# EAGLE library part TI_MULTIPAD (library PP_DigitalIC)
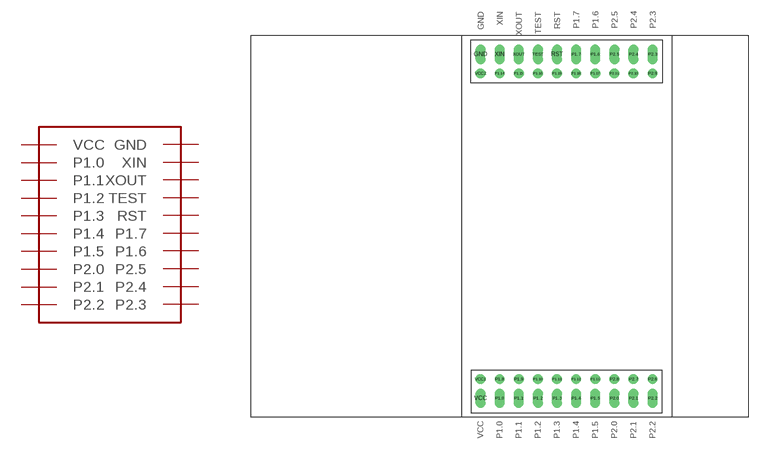
[diagram p4: symbol with the pads of TI_MULTIPAD; footprint TI_MULTIPAD]

Designator prefix U

## TI_MULTIPAD  [TI_MULTIPAD]
GND  GND
P1.0  P1.0
P1.1  P1.1
P1.2  P1.2
P1.3  P1.3
P1.4  P1.4
P1.5  P1.5
P1.6  P1.6
P1.7  P1.7
P2.0  P2.0
P2.1  P2.1
P2.2  P2.2
P2.3  P2.3
P2.4  P2.4
P2.5  P2.5
RST  RST
TEST  TEST
VCC  VCC
XIN  XIN
XOUT  XOUT

## Footprint TI_MULTIPAD (pad centres in mm)
drill 0.8 long: GND 30.48,48.26; P1.0 33.02,2.54; P1.1 35.56,2.54; P1.2 38.1,2.54; P1.3 40.64,2.54; P1.4 43.18,2.54; P1.5 45.72,2.54; P1.6 45.72,48.26; P1.7 43.18,48.26; P2.0 48.26,2.54; P2.1 50.8,2.54; P2.2 53.34,2.54; P2.3 53.34,48.26; P2.4 50.8,48.26; P2.5 48.26,48.26; RST 40.64,48.26; TEST 38.1,48.26; VCC 30.48,2.54; XIN 33.02,48.26; XOUT 35.56,48.26
drill 0.8: P1.8 33.02,5.08; P1.9 35.56,5.08; P1.10 38.1,5.08; P1.11 45.72,5.08; P1.12 43.18,5.08; P1.13 40.64,5.08; P1.14 33.02,45.72; P1.15 35.56,45.72; P1.16 38.1,45.72; P1.17 45.72,45.72; P1.18 43.18,45.72; P1.19 40.64,45.72; P2.6 53.34,5.08; P2.7 50.8,5.08; P2.8 48.26,5.08; P2.9 53.34,45.72; P2.10 50.8,45.72; P2.11 48.26,45.72; VCC1 30.48,5.08; VCC2 30.48,45.72